# Altium footprint library Miscellaneous Devices.PcbLib: 177 footprints (part 7 of 12)
Each footprint in its own frame and in the unit in brackets; x right, y up, seen from the top. Pads: shape width x height; smd on the part's side, far side on the other; paste and mask are expansions set on the pad; w line width, h text height; cw(c..) or ccw(c..) is an arc to the next point about the centre after c.
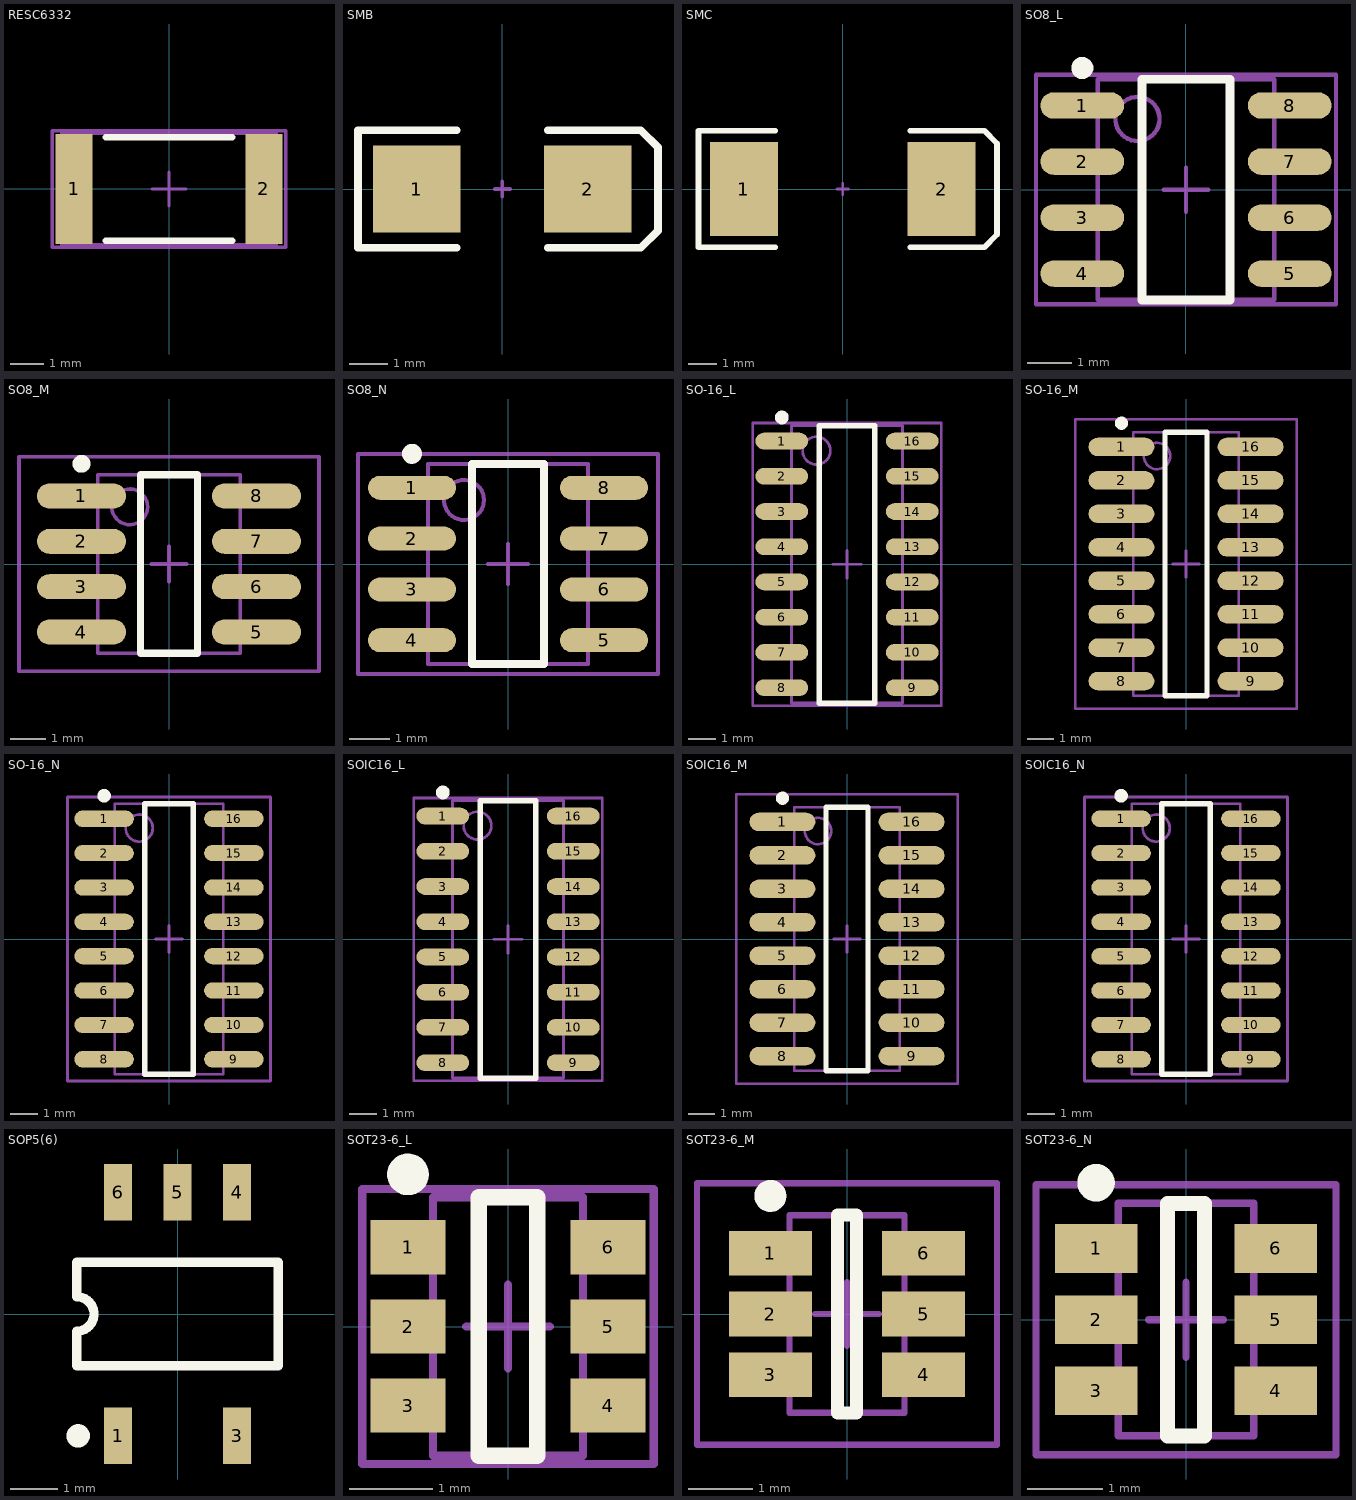
[diagram p6: the footprints below, top view; thin cyan lines are the x and y axes]

## RESC6332 [mm] "Chip Resistor, Body 6.3x3.2mm, IPC High Density"
height 0.9
pads (2):
  rect 1.1x3.3 smd: 1(-2.85,0) 2(2.85,0)
Top Overlay:
  lines w0.2: -1.9,-1.55 1.9,-1.55 ; -1.9,1.55 1.9,1.55
Mechanical 13:
  lines w0.1: -3.225,-1.675 3.225,-1.675 3.225,1.675 -3.225,1.675 -3.225,-1.675
Mechanical 15:
  lines w0.1: -0.5,0 0.5,0 ; 0,-0.5 0,0.5 ; -3.5,-1.75 3.5,-1.75 3.5,1.75 -3.5,1.75 -3.5,-1.75
3D body: height 0.9, standoff 0, extent -3.225,-1.675 3.225,1.675

## SMB [mm] "DO-214-AA/SMB; 2 C-Bend Leads; Body 5.3 x 3.6 mm, inc. leads (LxW)"
height 2.54
pads (2):
  rect 2.3x2.3 smd: 1(-2.25,0) 2(2.25,0)
Top Overlay:
  lines w0.2: -1.2,-1.55 -3.8,-1.55 -3.8,1.55 -1.2,1.55 ; 1.2,-1.55 3.65,-1.55 4.1,-1.1 4.1,1.1 3.65,1.55 1.2,1.55
Mechanical 1:
  lines w0.1: -0.2,0 0.2,0 ; 0,-0.2 0,0.2

## SMC [mm] "DO-214-AB/SMC; 2 C-Bend Leads; Body 7.9 x 5.9 mm, inc. leads (LxW)"
height 2.65
pads (2):
  rect 2.4x3.3 smd: 1(-3.475,0) 2(3.475,0)
Top Overlay:
  lines w0.2: -2.375,-2.05 -5.075,-2.05 -5.075,2.05 -2.375,2.05 ; 2.375,-2.05 4.975,-2.05 5.425,-1.6 5.425,1.6 4.975,2.055 ; 2.375,2.05 4.975,2.05
Mechanical 1:
  lines w0.1: -0.2,0 0.2,0 ; 0,-0.2 0,0.2
3D body: height 5.15, standoff -5.15, extent -0.127,3.175 -0.127,3.175
3D body "SMC.step": height 2.27, standoff 0, extent -3.843,-2.921 4.097,2.984

## SO8_L [mm] "SOIC, 8-Leads, Body 4.9x3.9mm, Pitch 1.27mm, IPC High Density"
height 1.75
pads (8):
  oval 1.9x0.6 smd: 1(-2.35,1.905) 2(-2.35,0.635) 3(-2.35,-0.635) 4(-2.35,-1.905) 5(2.35,-1.905) 6(2.35,-0.635) 7(2.35,0.635) 8(2.35,1.905)
Top Overlay:
  circle w0.25: c-2.35,2.755 r0.125
  lines w0.2: -1,-2.5 1,-2.5 1,2.5 -1,2.5 -1,-2.5
Mechanical 13:
  circle w0.1: c-1.1,1.6 r0.5
  lines w0.1: -2,-2.5 2,-2.5 2,2.5 -2,2.5 -2,-2.5
Mechanical 15:
  lines w0.1: -0.5,0 0.5,0 ; 0,-0.5 0,0.5 ; -3.4,-2.6 3.4,-2.6 3.4,2.6 -3.4,2.6 -3.4,-2.6
3D body: height 1.75, standoff 0, extent -2,-2.5 2,2.5

## SO8_M [mm] "SOIC, 8-Leads, Body 4.9x3.9mm, Pitch 1.27mm, IPC Low Density"
height 1.75
pads (8):
  oval 2.5x0.7 smd: 1(-2.45,1.905) 2(-2.45,0.635) 3(-2.45,-0.635) 4(-2.45,-1.905) 5(2.45,-1.905) 6(2.45,-0.635) 7(2.45,0.635) 8(2.45,1.905)
Top Overlay:
  circle w0.25: c-2.45,2.805 r0.125
  lines w0.2: -0.8,-2.5 -0.8,2.5 0.8,2.5 0.8,-2.5 -0.8,-2.5
Mechanical 13:
  circle w0.1: c-1.1,1.6 r0.5
  lines w0.1: -2,-2.5 -2,2.5 2,2.5 2,-2.5 -2,-2.5
Mechanical 15:
  lines w0.1: -0.5,0 0.5,0 ; 0,-0.5 0,0.5 ; -4.2,-3 -4.2,3 4.2,3 4.2,-3 -4.2,-3
3D body: height 1.75, standoff 0, extent -2,-2.5 2,2.5

## SO8_N [mm] "SOIC, 8-Leads, Body 4.9x3.9mm, Pitch 1.27mm, IPC Medium Density"
height 1.75
pads (8):
  oval 2.2x0.6 smd: 1(-2.4,1.905) 2(-2.4,0.635) 3(-2.4,-0.635) 4(-2.4,-1.905) 5(2.4,-1.905) 6(2.4,-0.635) 7(2.4,0.635) 8(2.4,1.905)
Top Overlay:
  circle w0.25: c-2.4,2.755 r0.125
  lines w0.2: -0.9,-2.5 0.9,-2.5 0.9,2.5 -0.9,2.5 -0.9,-2.5
Mechanical 13:
  circle w0.1: c-1.1,1.6 r0.5
  lines w0.1: -2,-2.5 2,-2.5 2,2.5 -2,2.5 -2,-2.5
Mechanical 15:
  lines w0.1: -0.5,0 0.5,0 ; 0,-0.5 0,0.5 ; -3.75,-2.75 3.75,-2.75 3.75,2.75 -3.75,2.75 -3.75,-2.75
3D body: height 1.75, standoff 0, extent -2,-2.5 2,2.5

## SO-16_L [mm] "SOIC, 16-Leads, Body 9.9x3.9mm, Pitch 1.27mm, IPC High Density"
height 1.75
pads (16):
  oval 1.9x0.6 smd: 1(-2.35,4.445) 2(-2.35,3.175) 3(-2.35,1.905) 4(-2.35,0.635) 5(-2.35,-0.635) 6(-2.35,-1.905) 7(-2.35,-3.175) 8(-2.35,-4.445) 9(2.35,-4.445) 10(2.35,-3.175) 11(2.35,-1.905) 12(2.35,-0.635) 13(2.35,0.635) 14(2.35,1.905) 15(2.35,3.175) 16(2.35,4.445)
Top Overlay:
  circle w0.25: c-2.35,5.295 r0.125
  lines w0.2: -1,-5 -1,5 1,5 1,-5 -1,-5
Mechanical 13:
  circle w0.1: c-1.1,4.1 r0.5
  lines w0.1: -2,-5 -2,5 2,5 2,-5 -2,-5
Mechanical 15:
  lines w0.1: -0.5,0 0.5,0 ; 0,-0.5 0,0.5 ; -3.4,-5.1 -3.4,5.1 3.4,5.1 3.4,-5.1 -3.4,-5.1
3D body: height 1.75, standoff 0, extent -2,-5 2,5

## SO-16_M [mm] "SOIC, 16-Leads, Body 9.9x3.9mm, Pitch 1.27mm, IPC Low Density"
height 1.75
pads (16):
  oval 2.5x0.7 smd: 1(-2.45,4.445) 2(-2.45,3.175) 3(-2.45,1.905) 4(-2.45,0.635) 5(-2.45,-0.635) 6(-2.45,-1.905) 7(-2.45,-3.175) 8(-2.45,-4.445) 9(2.45,-4.445) 10(2.45,-3.175) 11(2.45,-1.905) 12(2.45,-0.635) 13(2.45,0.635) 14(2.45,1.905) 15(2.45,3.175) 16(2.45,4.445)
Top Overlay:
  circle w0.25: c-2.45,5.345 r0.125
  lines w0.2: -0.8,-5 0.8,-5 0.8,5 -0.8,5 -0.8,-5
Mechanical 13:
  circle w0.1: c-1.1,4.1 r0.5
  lines w0.1: -2,-5 2,-5 2,5 -2,5 -2,-5
Mechanical 15:
  lines w0.1: -0.5,0 0.5,0 ; 0,-0.5 0,0.5 ; -4.2,-5.5 4.2,-5.5 4.2,5.5 -4.2,5.5 -4.2,-5.5
3D body: height 1.75, standoff 0, extent -2,-5 2,5

## SO-16_N [mm] "SOIC, 16-Leads, Body 9.9x3.9mm, Pitch 1.27mm, IPC Medium Density"
height 1.75
pads (16):
  oval 2.2x0.6 smd: 1(-2.4,4.445) 2(-2.4,3.175) 3(-2.4,1.905) 4(-2.4,0.635) 5(-2.4,-0.635) 6(-2.4,-1.905) 7(-2.4,-3.175) 8(-2.4,-4.445) 9(2.4,-4.445) 10(2.4,-3.175) 11(2.4,-1.905) 12(2.4,-0.635) 13(2.4,0.635) 14(2.4,1.905) 15(2.4,3.175) 16(2.4,4.445)
Top Overlay:
  circle w0.25: c-2.4,5.295 r0.125
  lines w0.2: -0.9,-5 0.9,-5 0.9,5 -0.9,5 -0.9,-5
Mechanical 13:
  circle w0.1: c-1.1,4.1 r0.5
  lines w0.1: -2,-5 2,-5 2,5 -2,5 -2,-5
Mechanical 15:
  lines w0.1: -0.5,0 0.5,0 ; 0,-0.5 0,0.5 ; -3.75,-5.25 3.75,-5.25 3.75,5.25 -3.75,5.25 -3.75,-5.25
3D body: height 1.75, standoff 0, extent -2,-5 2,5

## SOIC16_L [mm] "SOIC, 16-Leads, Body 9.9x3.9mm, Pitch 1.27mm, IPC High Density"
height 1.91
pads (16):
  oval 1.9x0.6 smd: 1(-2.35,4.445) 2(-2.35,3.175) 3(-2.35,1.905) 4(-2.35,0.635) 5(-2.35,-0.635) 6(-2.35,-1.905) 7(-2.35,-3.175) 8(-2.35,-4.445) 9(2.35,-4.445) 10(2.35,-3.175) 11(2.35,-1.905) 12(2.35,-0.635) 13(2.35,0.635) 14(2.35,1.905) 15(2.35,3.175) 16(2.35,4.445)
Top Overlay:
  circle w0.25: c-2.35,5.295 r0.125
  lines w0.2: -1,-5 -1,5 1,5 1,-5 -1,-5
Mechanical 13:
  circle w0.1: c-1.1,4.1 r0.5
  lines w0.1: -2,-5 -2,5 2,5 2,-5 -2,-5
Mechanical 15:
  lines w0.1: -0.5,0 0.5,0 ; 0,-0.5 0,0.5 ; -3.4,-5.1 -3.4,5.1 3.4,5.1 3.4,-5.1 -3.4,-5.1
3D body: height 1.91, standoff 0, extent -2,-5 2,5

## SOIC16_M [mm] "SOIC, 16-Leads, Body 9.9x3.9mm, Pitch 1.27mm, IPC Low Density"
height 1.91
pads (16):
  oval 2.5x0.7 smd: 1(-2.45,4.445) 2(-2.45,3.175) 3(-2.45,1.905) 4(-2.45,0.635) 5(-2.45,-0.635) 6(-2.45,-1.905) 7(-2.45,-3.175) 8(-2.45,-4.445) 9(2.45,-4.445) 10(2.45,-3.175) 11(2.45,-1.905) 12(2.45,-0.635) 13(2.45,0.635) 14(2.45,1.905) 15(2.45,3.175) 16(2.45,4.445)
Top Overlay:
  circle w0.25: c-2.45,5.345 r0.125
  lines w0.2: -0.8,-5 0.8,-5 0.8,5 -0.8,5 -0.8,-5
Mechanical 13:
  circle w0.1: c-1.1,4.1 r0.5
  lines w0.1: -2,-5 2,-5 2,5 -2,5 -2,-5
Mechanical 15:
  lines w0.1: -0.5,0 0.5,0 ; 0,-0.5 0,0.5 ; -4.2,-5.5 4.2,-5.5 4.2,5.5 -4.2,5.5 -4.2,-5.5
3D body: height 1.91, standoff 0, extent -2,-5 2,5

## SOIC16_N [mm] "SOIC, 16-Leads, Body 9.9x3.9mm, Pitch 1.27mm, IPC Medium Density"
height 1.91
pads (16):
  oval 2.2x0.6 smd: 1(-2.4,4.445) 2(-2.4,3.175) 3(-2.4,1.905) 4(-2.4,0.635) 5(-2.4,-0.635) 6(-2.4,-1.905) 7(-2.4,-3.175) 8(-2.4,-4.445) 9(2.4,-4.445) 10(2.4,-3.175) 11(2.4,-1.905) 12(2.4,-0.635) 13(2.4,0.635) 14(2.4,1.905) 15(2.4,3.175) 16(2.4,4.445)
Top Overlay:
  circle w0.25: c-2.4,5.295 r0.125
  lines w0.2: -0.9,-5 0.9,-5 0.9,5 -0.9,5 -0.9,-5
Mechanical 13:
  circle w0.1: c-1.1,4.1 r0.5
  lines w0.1: -2,-5 2,-5 2,5 -2,5 -2,-5
Mechanical 15:
  lines w0.1: -0.5,0 0.5,0 ; 0,-0.5 0,0.5 ; -3.75,-5.25 3.75,-5.25 3.75,5.25 -3.75,5.25 -3.75,-5.25
3D body: height 1.91, standoff 0, extent -2,-5 2,5

## SOP5(6) [mm] "Small Outline; 6 Leads (1 Absent); Body Width 4.4 mm; Pitch 1.27 mm"
height 2.4
pads (5):
  rect 0.6x1.2 smd: 1(-1.27,-2.6) 3(1.27,-2.6) 4(1.27,2.6) 5(0,2.6) 6(-1.27,2.6)
Top Overlay:
  circle w0.25: c-2.12,-2.6 r0.125
  lines w0.2: -2.15,-1.1 -2.15,-0.367 ccw(c-2.15,0) -2.15,0.367 -2.15,1.1 2.15,1.1 2.15,-1.1 -2.15,-1.1

## SOT23-6_L [mm] "SOT23, 6-Leads, Body 2.9x1.6mm, Pitch 0.95mm, Lead Span 2.7mm, IPC High Density"
height 1.45
pads (6):
  rect 0.9x0.65 smd: 1(-1.2,0.95) 2(-1.2,0) 3(-1.2,-0.95) 4(1.2,-0.95) 5(1.2,0) 6(1.2,0.95)
Top Overlay:
  circle w0.25: c-1.2,1.825 r0.125
  lines w0.2: -0.35,-1.55 -0.35,1.55 0.35,1.55 0.35,-1.55 -0.35,-1.55
Mechanical 13:
  lines w0.1: -0.9,-1.55 0.9,-1.55 0.9,1.55 -0.9,1.55 -0.9,-1.55
Mechanical 15:
  lines w0.1: -0.5,0 0.5,0 ; 0,-0.5 0,0.5 ; -1.75,-1.65 1.75,-1.65 1.75,1.65 -1.75,1.65 -1.75,-1.65
3D body: height 1.45, standoff 0, extent -0.9,-1.55 0.9,1.55

## SOT23-6_M [mm] "SOT23, 6-Leads, Body 2.9x1.6mm, Pitch 0.95mm, Lead Span 2.7mm, IPC Low Density"
height 1.45
pads (6):
  rect 1.3x0.7 smd: 1(-1.2,0.95) 2(-1.2,0) 3(-1.2,-0.95) 4(1.2,-0.95) 5(1.2,0) 6(1.2,0.95)
Top Overlay:
  circle w0.25: c-1.2,1.85 r0.125
  lines w0.2: -0.15,-1.55 -0.15,1.55 0.15,1.55 0.15,-1.55 -0.15,-1.55
Mechanical 13:
  lines w0.1: -0.9,-1.55 0.9,-1.55 0.9,1.55 -0.9,1.55 -0.9,-1.55
Mechanical 15:
  lines w0.1: -0.5,0 0.5,0 ; 0,-0.5 0,0.5 ; -2.35,-2.05 2.35,-2.05 2.35,2.05 -2.35,2.05 -2.35,-2.05
3D body: height 1.45, standoff 0, extent -0.9,-1.55 0.9,1.55

## SOT23-6_N [mm] "SOT23, 6-Leads, Body 2.9x1.6mm, Pitch 0.95mm, Lead Span 2.7mm, IPC Medium Density"
height 1.45
pads (6):
  rect 1.1x0.65 smd: 1(-1.2,0.95) 2(-1.2,0) 3(-1.2,-0.95) 4(1.2,-0.95) 5(1.2,0) 6(1.2,0.95)
Top Overlay:
  circle w0.25: c-1.2,1.825 r0.125
  lines w0.2: -0.25,-1.55 -0.25,1.55 0.25,1.55 0.25,-1.55 -0.25,-1.55
Mechanical 13:
  lines w0.1: -0.9,-1.55 0.9,-1.55 0.9,1.55 -0.9,1.55 -0.9,-1.55
Mechanical 15:
  lines w0.1: -0.5,0 0.5,0 ; 0,-0.5 0,0.5 ; -2,-1.8 2,-1.8 2,1.8 -2,1.8 -2,-1.8
3D body: height 1.45, standoff 0, extent -0.9,-1.55 0.9,1.55